# Altium schematic symbol library TFT.SchLib: 14 symbols
Pins are listed as number, name and electrical type; pins without a type are passive.

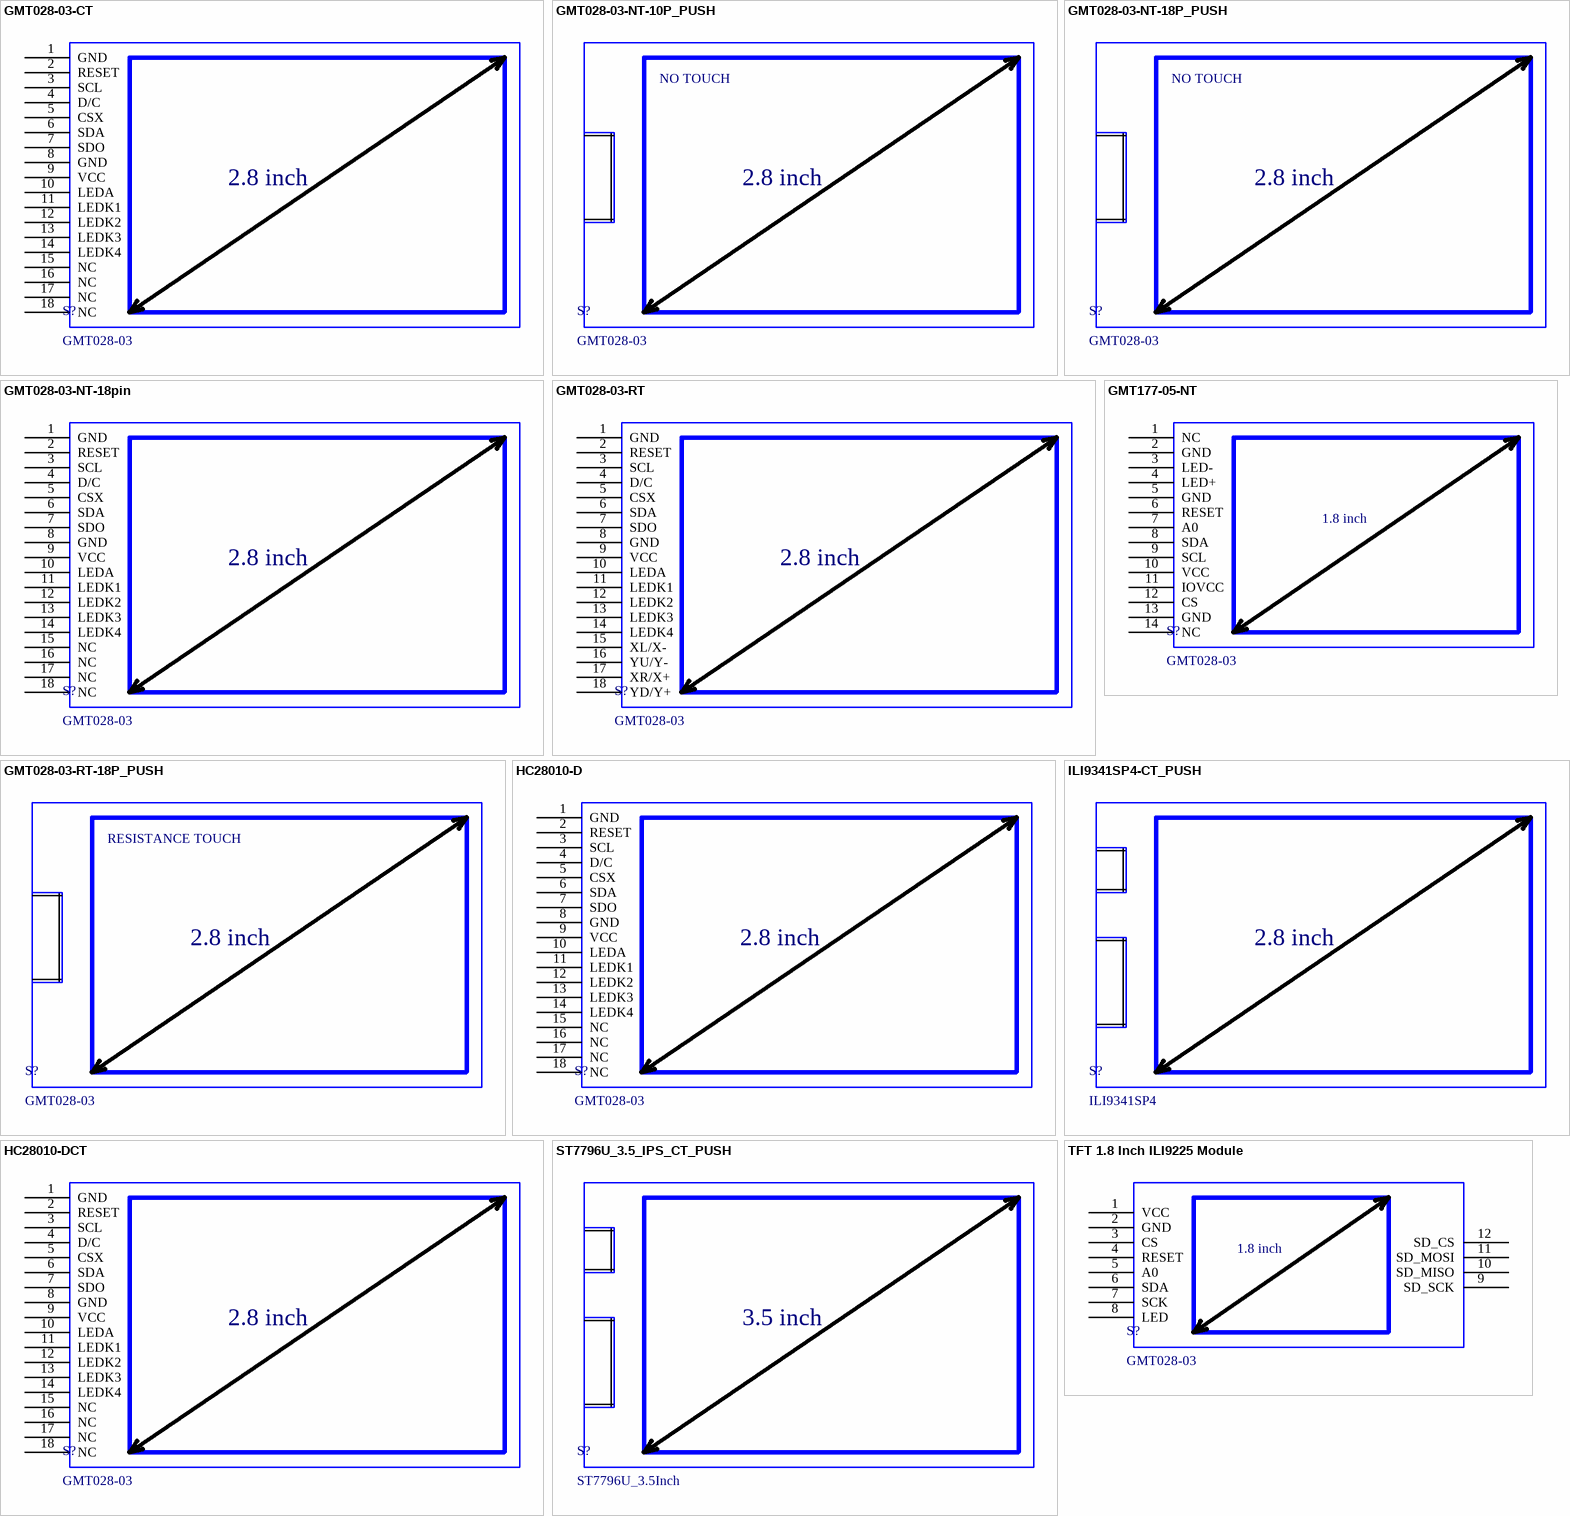
[diagram p0: symbols GMT028-03-CT to TFT 1.8 Inch ILI9225 Module]

## GMT028-03-CT
designator S?, comment GMT028-03
2.8 inch TFT display 240×320 ST7789V GMT028-03; Manufacturer: GoldenMorning; Manufacturer Part Number: 68612614122; Screen type: TFT IPS; Voltage Input Maximum: 3.3 V; Voltage Input Minimum: 2.8 V; Driver: ST7789V; Size: 2.8 inch; Type: Panel; Value: GMT028-03; ComponentLink1Description: Datasheet; LCSC Part #: N/A; Supplier 1: Mouser; Supplier 1 Part Number: N/A; Supplier 1 URL: N/A; Supplier 2: Digi-Key; Supplier 2 Part Number: N/A; Supplier 2 URL: N/A; Supplier 3: Taobao; Supplier 3 Part Number: N/A; Supplier 3 URL: https://item.taobao.com/item.htm?id=710817195560&pisk=fdQIZQ02AvDIiLxK0_FwCV-Rs4T5O9a22bORi_3EweLpwa6RF7fFa_dJPOBztp58KT_WBTVnzWbFF3CeCBnJe4d96IRXe2CRzQQW-NSEzpyHP_B2P-y4ur5ht3Y83-J7FWd6kBp-2YJR6hCZU7ZYur5h1XRLg1UV8uZaNnOJyHKJ6cpMND3ReDUT1Qdr2Xnde1LSrcHnpx50CV0ZbVWhHWoI20Q66WvAOQAM_N9BvKK9B4CN5BtBH6QUd4YW6N760hlzOFCcb9d6lyMDOGCXJQ_uM09WVwY6CtaxrCjddNK5774f_eOWDUKsw4C68GK6TEUxCCjOTgQhdbgJtw72VKx_w4xyWZ-AD9Gui1LpwgRnuKM4i0G6m4O635Nsq0YcU2fxacK0QHdMOhP_1vIkvCA635Nsq0xpsBta15Mdq&spm=a1z10.5-c-s.w4002-23300244402.11.2d3d5b55n9vasc; ComponentLink1URL: https://item.taobao.com/item.htm?id=710817195560&pisk=fdQIZQ02AvDIiLxK0_FwCV-Rs4T5O9a22bORi_3EweLpwa6RF7fFa_dJPOBztp58KT_WBTVnzWbFF3CeCBnJe4d96IRXe2CRzQQW-NSEzpyHP_B2P-y4ur5ht3Y83-J7FWd6kBp-2YJR6hCZU7ZYur5h1XRLg1UV8uZaNnOJyHKJ6cpMND3ReDUT1Qdr2Xnde1LSrcHnpx50CV0ZbVWhHWoI20Q66WvAOQAM_N9BvKK9B4CN5BtBH6QUd4YW6N760hlzOFCcb9d6lyMDOGCXJQ_uM09WVwY6CtaxrCjddNK5774f_eOWDUKsw4C68GK6TEUxCCjOTgQhdbgJtw72VKx_w4xyWZ-AD9Gui1LpwgRnuKM4i0G6m4O635Nsq0YcU2fxacK0QHdMOhP_1vIkvCA635Nsq0xpsBta15Mdq&spm=a1z10.5-c-s.w4002-23300244402.11.2d3d5b55n9vasc
footprint GMT028-03-18pin-CT
pins: 1 GND, 2 RESET, 3 SCL, 4 D/C, 5 CSX, 6 SDA, 7 SDO, 8 GND, 9 VCC, 10 LEDA, 11 LEDK1, 12 LEDK2, 13 LEDK3, 14 LEDK4, 15 NC, 16 NC, 17 NC, 18 NC

## GMT028-03-NT-10P_PUSH
designator S?, comment GMT028-03
2.8 inch TFT display 240×320 ST7789V GMT028-03; Manufacturer: GoldenMorning; Manufacturer Part Number: 68612614122; Screen type: TFT IPS; Voltage Input Maximum: 3.3 V; Voltage Input Minimum: 2.8 V; Driver: ST7789V; Size: 2.8 inch; Type: Panel; Value: GMT028-03; ComponentLink1Description: Datasheet; LCSC Part #: N/A; Supplier 1: Mouser; Supplier 1 Part Number: N/A; Supplier 1 URL: N/A; Supplier 2: Digi-Key; Supplier 2 Part Number: N/A; Supplier 2 URL: N/A; Supplier 3: Taobao; Supplier 3 Part Number: 2.8 inch-18P welding-ST7789; Supplier 3 URL: https://item.taobao.com/item.htm?id=710817195560&pisk=fdQIZQ02AvDIiLxK0_FwCV-Rs4T5O9a22bORi_3EweLpwa6RF7fFa_dJPOBztp58KT_WBTVnzWbFF3CeCBnJe4d96IRXe2CRzQQW-NSEzpyHP_B2P-y4ur5ht3Y83-J7FWd6kBp-2YJR6hCZU7ZYur5h1XRLg1UV8uZaNnOJyHKJ6cpMND3ReDUT1Qdr2Xnde1LSrcHnpx50CV0ZbVWhHWoI20Q66WvAOQAM_N9BvKK9B4CN5BtBH6QUd4YW6N760hlzOFCcb9d6lyMDOGCXJQ_uM09WVwY6CtaxrCjddNK5774f_eOWDUKsw4C68GK6TEUxCCjOTgQhdbgJtw72VKx_w4xyWZ-AD9Gui1LpwgRnuKM4i0G6m4O635Nsq0YcU2fxacK0QHdMOhP_1vIkvCA635Nsq0xpsBta15Mdq&spm=a1z10.5-c-s.w4002-23300244402.11.2d3d5b55n9vasc; ComponentLink1URL: https://item.taobao.com/item.htm?id=710817195560&pisk=fdQIZQ02AvDIiLxK0_FwCV-Rs4T5O9a22bORi_3EweLpwa6RF7fFa_dJPOBztp58KT_WBTVnzWbFF3CeCBnJe4d96IRXe2CRzQQW-NSEzpyHP_B2P-y4ur5ht3Y83-J7FWd6kBp-2YJR6hCZU7ZYur5h1XRLg1UV8uZaNnOJyHKJ6cpMND3ReDUT1Qdr2Xnde1LSrcHnpx50CV0ZbVWhHWoI20Q66WvAOQAM_N9BvKK9B4CN5BtBH6QUd4YW6N760hlzOFCcb9d6lyMDOGCXJQ_uM09WVwY6CtaxrCjddNK5774f_eOWDUKsw4C68GK6TEUxCCjOTgQhdbgJtw72VKx_w4xyWZ-AD9Gui1LpwgRnuKM4i0G6m4O635Nsq0YcU2fxacK0QHdMOhP_1vIkvCA635Nsq0xpsBta15Mdq&spm=a1z10.5-c-s.w4002-23300244402.11.2d3d5b55n9vasc
footprint GMT028-03-10pin-plug
text: NO TOUCH

## GMT028-03-NT-18P_PUSH
designator S?, comment GMT028-03
2.8 inch TFT display 240×320 ST7789V GMT028-03; Manufacturer: GoldenMorning; Manufacturer Part Number: 68612614122; Screen type: TFT IPS; Voltage Input Maximum: 3.3 V; Voltage Input Minimum: 2.8 V; Driver: ST7789V; Size: 2.8 inch; Type: Panel; Value: GMT028-03; ComponentLink1Description: Datasheet; LCSC Part #: N/A; Supplier 1: Mouser; Supplier 1 Part Number: N/A; Supplier 1 URL: N/A; Supplier 2: Digi-Key; Supplier 2 Part Number: N/A; Supplier 2 URL: N/A; Supplier 3: Taobao; Supplier 3 Part Number: 2.8 inch-18P welding-ST7789; Supplier 3 URL: https://item.taobao.com/item.htm?id=710817195560&pisk=fdQIZQ02AvDIiLxK0_FwCV-Rs4T5O9a22bORi_3EweLpwa6RF7fFa_dJPOBztp58KT_WBTVnzWbFF3CeCBnJe4d96IRXe2CRzQQW-NSEzpyHP_B2P-y4ur5ht3Y83-J7FWd6kBp-2YJR6hCZU7ZYur5h1XRLg1UV8uZaNnOJyHKJ6cpMND3ReDUT1Qdr2Xnde1LSrcHnpx50CV0ZbVWhHWoI20Q66WvAOQAM_N9BvKK9B4CN5BtBH6QUd4YW6N760hlzOFCcb9d6lyMDOGCXJQ_uM09WVwY6CtaxrCjddNK5774f_eOWDUKsw4C68GK6TEUxCCjOTgQhdbgJtw72VKx_w4xyWZ-AD9Gui1LpwgRnuKM4i0G6m4O635Nsq0YcU2fxacK0QHdMOhP_1vIkvCA635Nsq0xpsBta15Mdq&spm=a1z10.5-c-s.w4002-23300244402.11.2d3d5b55n9vasc; ComponentLink1URL: https://item.taobao.com/item.htm?id=710817195560&pisk=fdQIZQ02AvDIiLxK0_FwCV-Rs4T5O9a22bORi_3EweLpwa6RF7fFa_dJPOBztp58KT_WBTVnzWbFF3CeCBnJe4d96IRXe2CRzQQW-NSEzpyHP_B2P-y4ur5ht3Y83-J7FWd6kBp-2YJR6hCZU7ZYur5h1XRLg1UV8uZaNnOJyHKJ6cpMND3ReDUT1Qdr2Xnde1LSrcHnpx50CV0ZbVWhHWoI20Q66WvAOQAM_N9BvKK9B4CN5BtBH6QUd4YW6N760hlzOFCcb9d6lyMDOGCXJQ_uM09WVwY6CtaxrCjddNK5774f_eOWDUKsw4C68GK6TEUxCCjOTgQhdbgJtw72VKx_w4xyWZ-AD9Gui1LpwgRnuKM4i0G6m4O635Nsq0YcU2fxacK0QHdMOhP_1vIkvCA635Nsq0xpsBta15Mdq&spm=a1z10.5-c-s.w4002-23300244402.11.2d3d5b55n9vasc
footprint GMT028-03-18pin-plug
text: NO TOUCH

## GMT028-03-NT-18pin
designator S?, comment GMT028-03
2.8 inch TFT display 240×320 ST7789V GMT028-03; Manufacturer: GoldenMorning; Manufacturer Part Number: 68612614122; Screen type: TFT IPS; Voltage Input Maximum: 3.3 V; Voltage Input Minimum: 2.8 V; Driver: ST7789V; Size: 2.8 inch; Type: Panel; Value: GMT028-03; ComponentLink1Description: Datasheet; LCSC Part #: N/A; Supplier 1: Mouser; Supplier 1 Part Number: N/A; Supplier 1 URL: N/A; Supplier 2: Digi-Key; Supplier 2 Part Number: N/A; Supplier 2 URL: N/A; Supplier 3: Taobao; Supplier 3 Part Number: 2.8 inch-18P welding-ST7789; Supplier 3 URL: https://item.taobao.com/item.htm?id=710817195560&pisk=fdQIZQ02AvDIiLxK0_FwCV-Rs4T5O9a22bORi_3EweLpwa6RF7fFa_dJPOBztp58KT_WBTVnzWbFF3CeCBnJe4d96IRXe2CRzQQW-NSEzpyHP_B2P-y4ur5ht3Y83-J7FWd6kBp-2YJR6hCZU7ZYur5h1XRLg1UV8uZaNnOJyHKJ6cpMND3ReDUT1Qdr2Xnde1LSrcHnpx50CV0ZbVWhHWoI20Q66WvAOQAM_N9BvKK9B4CN5BtBH6QUd4YW6N760hlzOFCcb9d6lyMDOGCXJQ_uM09WVwY6CtaxrCjddNK5774f_eOWDUKsw4C68GK6TEUxCCjOTgQhdbgJtw72VKx_w4xyWZ-AD9Gui1LpwgRnuKM4i0G6m4O635Nsq0YcU2fxacK0QHdMOhP_1vIkvCA635Nsq0xpsBta15Mdq&spm=a1z10.5-c-s.w4002-23300244402.11.2d3d5b55n9vasc; ComponentLink1URL: https://item.taobao.com/item.htm?id=710817195560&pisk=fdQIZQ02AvDIiLxK0_FwCV-Rs4T5O9a22bORi_3EweLpwa6RF7fFa_dJPOBztp58KT_WBTVnzWbFF3CeCBnJe4d96IRXe2CRzQQW-NSEzpyHP_B2P-y4ur5ht3Y83-J7FWd6kBp-2YJR6hCZU7ZYur5h1XRLg1UV8uZaNnOJyHKJ6cpMND3ReDUT1Qdr2Xnde1LSrcHnpx50CV0ZbVWhHWoI20Q66WvAOQAM_N9BvKK9B4CN5BtBH6QUd4YW6N760hlzOFCcb9d6lyMDOGCXJQ_uM09WVwY6CtaxrCjddNK5774f_eOWDUKsw4C68GK6TEUxCCjOTgQhdbgJtw72VKx_w4xyWZ-AD9Gui1LpwgRnuKM4i0G6m4O635Nsq0YcU2fxacK0QHdMOhP_1vIkvCA635Nsq0xpsBta15Mdq&spm=a1z10.5-c-s.w4002-23300244402.11.2d3d5b55n9vasc
footprint GMT028-03-18pin
pins: 1 GND, 2 RESET, 3 SCL, 4 D/C, 5 CSX, 6 SDA, 7 SDO, 8 GND, 9 VCC, 10 LEDA, 11 LEDK1, 12 LEDK2, 13 LEDK3, 14 LEDK4, 15 NC, 16 NC, 17 NC, 18 NC

## GMT028-03-RT
designator S?, comment GMT028-03
2.8 inch TFT display 240×320 ST7789V GMT028-03; Manufacturer: GoldenMorning; Manufacturer Part Number: 68612614122; Screen type: TFT IPS; Voltage Input Maximum: 3.3 V; Voltage Input Minimum: 2.8 V; Driver: ST7789V; Size: 2.8 inch; Type: Panel; Value: GMT028-03; ComponentLink1Description: Datasheet; LCSC Part #: N/A; Supplier 1: Mouser; Supplier 1 Part Number: N/A; Supplier 1 URL: N/A; Supplier 2: Digi-Key; Supplier 2 Part Number: N/A; Supplier 2 URL: N/A; Supplier 3: Taobao; Supplier 3 Part Number: N/A; Supplier 3 URL: https://item.taobao.com/item.htm?id=710817195560&pisk=fdQIZQ02AvDIiLxK0_FwCV-Rs4T5O9a22bORi_3EweLpwa6RF7fFa_dJPOBztp58KT_WBTVnzWbFF3CeCBnJe4d96IRXe2CRzQQW-NSEzpyHP_B2P-y4ur5ht3Y83-J7FWd6kBp-2YJR6hCZU7ZYur5h1XRLg1UV8uZaNnOJyHKJ6cpMND3ReDUT1Qdr2Xnde1LSrcHnpx50CV0ZbVWhHWoI20Q66WvAOQAM_N9BvKK9B4CN5BtBH6QUd4YW6N760hlzOFCcb9d6lyMDOGCXJQ_uM09WVwY6CtaxrCjddNK5774f_eOWDUKsw4C68GK6TEUxCCjOTgQhdbgJtw72VKx_w4xyWZ-AD9Gui1LpwgRnuKM4i0G6m4O635Nsq0YcU2fxacK0QHdMOhP_1vIkvCA635Nsq0xpsBta15Mdq&spm=a1z10.5-c-s.w4002-23300244402.11.2d3d5b55n9vasc; ComponentLink1URL: https://item.taobao.com/item.htm?id=710817195560&pisk=fdQIZQ02AvDIiLxK0_FwCV-Rs4T5O9a22bORi_3EweLpwa6RF7fFa_dJPOBztp58KT_WBTVnzWbFF3CeCBnJe4d96IRXe2CRzQQW-NSEzpyHP_B2P-y4ur5ht3Y83-J7FWd6kBp-2YJR6hCZU7ZYur5h1XRLg1UV8uZaNnOJyHKJ6cpMND3ReDUT1Qdr2Xnde1LSrcHnpx50CV0ZbVWhHWoI20Q66WvAOQAM_N9BvKK9B4CN5BtBH6QUd4YW6N760hlzOFCcb9d6lyMDOGCXJQ_uM09WVwY6CtaxrCjddNK5774f_eOWDUKsw4C68GK6TEUxCCjOTgQhdbgJtw72VKx_w4xyWZ-AD9Gui1LpwgRnuKM4i0G6m4O635Nsq0YcU2fxacK0QHdMOhP_1vIkvCA635Nsq0xpsBta15Mdq&spm=a1z10.5-c-s.w4002-23300244402.11.2d3d5b55n9vasc
footprint GMT028-03-18pin
pins: 1 GND, 2 RESET, 3 SCL, 4 D/C, 5 CSX, 6 SDA, 7 SDO, 8 GND, 9 VCC, 10 LEDA, 11 LEDK1, 12 LEDK2, 13 LEDK3, 14 LEDK4, 15 XL/X-, 16 YU/Y-, 17 XR/X+, 18 YD/Y+

## GMT028-03-RT-18P_PUSH
designator S?, comment GMT028-03
2.8 inch TFT display 240×320 ST7789V GMT028-03; Manufacturer: GoldenMorning; Manufacturer Part Number: 68612614122; Screen type: TFT IPS; Voltage Input Maximum: 3.3 V; Voltage Input Minimum: 2.8 V; Driver: ST7789V; Size: 2.8 inch; Type: Panel; Value: GMT028-03; ComponentLink1Description: Datasheet; LCSC Part #: N/A; Supplier 1: Mouser; Supplier 1 Part Number: N/A; Supplier 1 URL: N/A; Supplier 2: Digi-Key; Supplier 2 Part Number: N/A; Supplier 2 URL: N/A; Supplier 3: Taobao; Supplier 3 Part Number: 2.8 inch-18P welding-ST7789; Supplier 3 URL: https://item.taobao.com/item.htm?id=710817195560&pisk=fdQIZQ02AvDIiLxK0_FwCV-Rs4T5O9a22bORi_3EweLpwa6RF7fFa_dJPOBztp58KT_WBTVnzWbFF3CeCBnJe4d96IRXe2CRzQQW-NSEzpyHP_B2P-y4ur5ht3Y83-J7FWd6kBp-2YJR6hCZU7ZYur5h1XRLg1UV8uZaNnOJyHKJ6cpMND3ReDUT1Qdr2Xnde1LSrcHnpx50CV0ZbVWhHWoI20Q66WvAOQAM_N9BvKK9B4CN5BtBH6QUd4YW6N760hlzOFCcb9d6lyMDOGCXJQ_uM09WVwY6CtaxrCjddNK5774f_eOWDUKsw4C68GK6TEUxCCjOTgQhdbgJtw72VKx_w4xyWZ-AD9Gui1LpwgRnuKM4i0G6m4O635Nsq0YcU2fxacK0QHdMOhP_1vIkvCA635Nsq0xpsBta15Mdq&spm=a1z10.5-c-s.w4002-23300244402.11.2d3d5b55n9vasc; ComponentLink1URL: https://item.taobao.com/item.htm?id=710817195560&pisk=fdQIZQ02AvDIiLxK0_FwCV-Rs4T5O9a22bORi_3EweLpwa6RF7fFa_dJPOBztp58KT_WBTVnzWbFF3CeCBnJe4d96IRXe2CRzQQW-NSEzpyHP_B2P-y4ur5ht3Y83-J7FWd6kBp-2YJR6hCZU7ZYur5h1XRLg1UV8uZaNnOJyHKJ6cpMND3ReDUT1Qdr2Xnde1LSrcHnpx50CV0ZbVWhHWoI20Q66WvAOQAM_N9BvKK9B4CN5BtBH6QUd4YW6N760hlzOFCcb9d6lyMDOGCXJQ_uM09WVwY6CtaxrCjddNK5774f_eOWDUKsw4C68GK6TEUxCCjOTgQhdbgJtw72VKx_w4xyWZ-AD9Gui1LpwgRnuKM4i0G6m4O635Nsq0YcU2fxacK0QHdMOhP_1vIkvCA635Nsq0xpsBta15Mdq&spm=a1z10.5-c-s.w4002-23300244402.11.2d3d5b55n9vasc
footprint GMT028-03-18pin-plug
text: RESISTANCE TOUCH

## GMT177-05-NT
designator S?, comment GMT028-03
TFT IPS 1.8 Inch ST7735S Panel; Manufacturer Part Number: 68612614122; Screen type: TFT IPS; Voltage Input Maximum: 3.3 V; Voltage Input Minimum: 2.8 V; Driver: ST7735S; Size: 1.8 inch; Type: Panel; ComponentLink1Description: Datasheet; LCSC Part #: N/A; Manufacturer: N/A; Supplier 1: Mouser; Supplier 1 Part Number: N/A; Supplier 1 URL: N/A; Supplier 2: Digi-Key; Supplier 2 Part Number: N/A; Supplier 2 URL: N/A; Supplier 3: thegioiic; Supplier 3 Part Number: N/A; Supplier 3 URL: N/A; Value: GMT028-03; ComponentLink1URL: N/A
footprint GMT177-05
pins: 1 NC, 2 GND, 3 LED-, 4 LED+, 5 GND, 6 RESET, 7 A0, 8 SDA, 9 SCL, 10 VCC, 11 IOVCC, 12 CS, 13 GND, 14 NC

## HC28010-D
designator S?, comment GMT028-03
2.8 inch TFT display 240×320 ST7789V GMT028-03; Manufacturer: DUOWEISI; Manufacturer Part Number: 68612614122; Screen type: TFT IPS; Voltage Input Maximum: 3.3 V; Voltage Input Minimum: 2.8 V; Driver: ST7789V; Size: 2.8 inch; Type: Panel; Value: GMT028-03; ComponentLink1Description: Datasheet; ComponentLink1URL: https://item.taobao.com/item.htm?id=679717437355&pisk=gj2ofJvzF7l5moz9yrk5TH_XKz5YP3MI8ypKJv3Fgqub2pI72SmUJrsCVYEE-y4xlupdVuFDxla0-XsSJ2u3JkPRDOBTVuMIL2bOBOQ9RQjg-0kEznSEfDAFDbzv_QS-LNQOKIKqNaHUyuHLjIrqlDmeUpzEgEoiuDueUyuqgco9UvkU8ixqxcLeULoy3KujXU-yUb8q0Do6UQoz8oSmvD3ELvlyIpugL-wVyUK7uAE6B-ioZVrrzyUL36lWNo005P2rqoV44M9eL-moZJGeUvDZwWrs18EhKKM8jSkqxJswt2cgT8H4UZWZGXy4umzRvBi0tkysFbtBdPDu-fyriHJIUvPSnmyNvCgYn4UUEjS9IXH4BfkzMs_-9Ymg88akxpzaDleSGJbMu2N-fxo3dGRn-XSruIRadrpI0Me2OBGrcm0OJnOlS8k_1hScmC1SamiRWijDOBGrcm0OmiA1Nboj2NC..&skuId=4877221777661&spm=pc_detail.29232929%2Fevo401271b517998.202205.23.350b7dd6lReNKq; LCSC Part #: N/A; Supplier 1: Mouser; Supplier 1 Part Number: N/A; Supplier 1 URL: N/A; Supplier 2: Digi-Key; Supplier 2 Part Number: N/A; Supplier 2 URL: N/A; Supplier 3: Taobao; Supplier 3 Part Number: N/A; Supplier 3 URL: N/A
footprint GMT028-03-18pin
pins: 1 GND, 2 RESET, 3 SCL, 4 D/C, 5 CSX, 6 SDA, 7 SDO, 8 GND, 9 VCC, 10 LEDA, 11 LEDK1, 12 LEDK2, 13 LEDK3, 14 LEDK4, 15 NC, 16 NC, 17 NC, 18 NC

## HC28010-DCT
designator S?, comment GMT028-03
2.8 inch TFT display 240×320 ST7789V GMT028-03; Manufacturer: DUOWEISI; Manufacturer Part Number: 68612614122; Screen type: TFT IPS; Voltage Input Maximum: 3.3 V; Voltage Input Minimum: 2.8 V; Driver: ST7789V; Size: 2.8 inch; Type: Panel; Value: GMT028-03; ComponentLink1Description: Datasheet; ComponentLink1URL: https://item.taobao.com/item.htm?id=679717437355&pisk=gj2ofJvzF7l5moz9yrk5TH_XKz5YP3MI8ypKJv3Fgqub2pI72SmUJrsCVYEE-y4xlupdVuFDxla0-XsSJ2u3JkPRDOBTVuMIL2bOBOQ9RQjg-0kEznSEfDAFDbzv_QS-LNQOKIKqNaHUyuHLjIrqlDmeUpzEgEoiuDueUyuqgco9UvkU8ixqxcLeULoy3KujXU-yUb8q0Do6UQoz8oSmvD3ELvlyIpugL-wVyUK7uAE6B-ioZVrrzyUL36lWNo005P2rqoV44M9eL-moZJGeUvDZwWrs18EhKKM8jSkqxJswt2cgT8H4UZWZGXy4umzRvBi0tkysFbtBdPDu-fyriHJIUvPSnmyNvCgYn4UUEjS9IXH4BfkzMs_-9Ymg88akxpzaDleSGJbMu2N-fxo3dGRn-XSruIRadrpI0Me2OBGrcm0OJnOlS8k_1hScmC1SamiRWijDOBGrcm0OmiA1Nboj2NC..&skuId=4877221777661&spm=pc_detail.29232929%2Fevo401271b517998.202205.23.350b7dd6lReNKq; LCSC Part #: N/A; Supplier 1: Mouser; Supplier 1 Part Number: N/A; Supplier 1 URL: N/A; Supplier 2: Digi-Key; Supplier 2 Part Number: N/A; Supplier 2 URL: N/A; Supplier 3: Taobao; Supplier 3 Part Number: N/A; Supplier 3 URL: N/A
footprint GMT028-03-18pin-CT
pins: 1 GND, 2 RESET, 3 SCL, 4 D/C, 5 CSX, 6 SDA, 7 SDO, 8 GND, 9 VCC, 10 LEDA, 11 LEDK1, 12 LEDK2, 13 LEDK3, 14 LEDK4, 15 NC, 16 NC, 17 NC, 18 NC

## ILI9341SP4-CT_PUSH
designator S?, comment ILI9341SP4
2.8 inch TFT display 240×320 ST7789V ILI9341SP4; Manufacturer: Yaoyuanhong Technology; Screen type: TFT IPS; Voltage Input Maximum: 3.3 V; Voltage Input Minimum: 2.8 V; Driver: ST7789V; Size: 2.8 inch; Type: Panel; Value: ILI9341SP4; ComponentLink1Description: Datasheet; LCSC Part #: N/A; Manufacturer Part Number: ILI9341SP4; Supplier 1: Mouser; Supplier 1 Part Number: N/A; Supplier 1 URL: N/A; Supplier 2: Digi-Key; Supplier 2 Part Number: N/A; Supplier 2 URL: N/A; Supplier 3: Taobao; Supplier 3 Part Number: N/A; Supplier 3 URL: https://e.tb.cn/h.6TmPpvXFVOUaXNH?tk=ez3EeA30mIk; ComponentLink1URL: https://e.tb.cn/h.6TmPpvXFVOUaXNH?tk=ez3EeA30mIk
footprint ILI9341SP4-18pin-CT-plug

## ST7796U_3.5_IPS_CT_PUSH
designator S?, comment ST7796U_3.5Inch
3.5 inch IPS display 320×480 ST7796U; Manufacturer: Yaoyuanhong Technology; Manufacturer Part Number: ILI9341SP4; Screen type: TFT IPS; Voltage Input Maximum: 3.3 V; Voltage Input Minimum: 2.8 V; Driver: ST7796U; Size: 2.8 inch; Type: Panel; Value: ST7796U_3.5Inch; ComponentLink1Description: Datasheet; LCSC Part #: N/A; Supplier 1: Mouser; Supplier 1 Part Number: N/A; Supplier 1 URL: N/A; Supplier 2: Digi-Key; Supplier 2 Part Number: N/A; Supplier 2 URL: N/A; Supplier 3: Taobao; Supplier 3 Part Number: N/A; Supplier 3 URL: https://e.tb.cn/h.SG6sNU86mBkHVn2?tk=dYQlfkeQtDx; ComponentLink1URL: https://e.tb.cn/h.6TmPpvXFVOUaXNH?tk=ez3EeA30mIk
footprint ST7796U_3.5_IPS_CT_PUSH
text: 3.5 inch

## TFT 1.8 Inch ILI9225 Module
designator S?, comment GMT028-03
TFT 1.8 Inch ILI9225 Module; Manufacturer Part Number: 68612614122; Screen type: TFT IPS; Voltage Input Maximum: 3.3 V; Voltage Input Minimum: 2.8 V; Driver: ILI9225; Size: 1.8 inch; Type: Module; ComponentLink1Description: Datasheet; LCSC Part #: N/A; Manufacturer: N/A; Supplier 1: Mouser; Supplier 1 Part Number: N/A; Supplier 1 URL: N/A; Supplier 2: Digi-Key; Supplier 2 Part Number: N/A; Supplier 2 URL: N/A; Supplier 3: thegioiic; Supplier 3 Part Number: N/A; Supplier 3 URL: N/A; Value: GMT028-03; ComponentLink1URL: N/A
footprint TFT_1.8_MODULE
footprint TFT_1.8_MODULE - WITHOUT_HOLE
pins: 1 VCC, 2 GND, 3 CS, 4 RESET, 5 A0, 6 SDA, 7 SCK, 8 LED, 9 SD_SCK, 10 SD_MISO, 11 SD_MOSI, 12 SD_CS

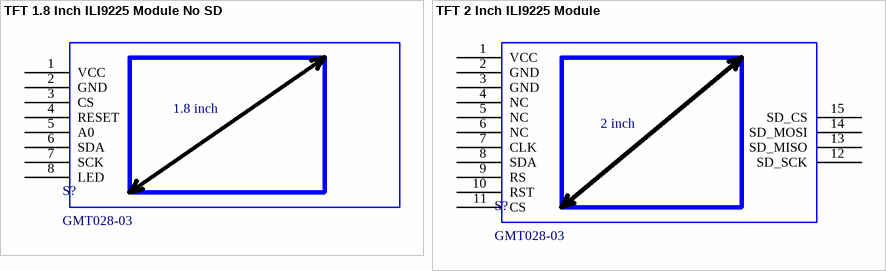
[diagram p1: symbols TFT 1.8 Inch ILI9225 Module No SD to TFT 2 Inch ILI9225 Module]

## TFT 1.8 Inch ILI9225 Module No SD
designator S?, comment GMT028-03
TFT 1.8 Inch ILI9225 Module No SD; Manufacturer Part Number: 68612614122; Screen type: TFT IPS; Voltage Input Maximum: 3.3 V; Voltage Input Minimum: 2.8 V; Driver: ILI9225; Size: 1.8 inch; Type: Module; ComponentLink1Description: Datasheet; LCSC Part #: N/A; Manufacturer: N/A; Supplier 1: Mouser; Supplier 1 Part Number: N/A; Supplier 1 URL: N/A; Supplier 2: Digi-Key; Supplier 2 Part Number: N/A; Supplier 2 URL: N/A; Supplier 3: thegioiic; Supplier 3 Part Number: N/A; Supplier 3 URL: N/A; Value: GMT028-03; ComponentLink1URL: N/A
footprint TFT_1.8_MODULE - nosd
footprint TFT_1.8_MODULE - WITHOUT_HOLE - nosd
pins: 1 VCC, 2 GND, 3 CS, 4 RESET, 5 A0, 6 SDA, 7 SCK, 8 LED

## TFT 2 Inch ILI9225 Module
designator S?, comment GMT028-03
TFT 2 Inch ILI9225 Module; Manufacturer Part Number: 68612614122; Screen type: TFT IPS; Voltage Input Maximum: 3.3 V; Voltage Input Minimum: 2.8 V; Driver: ILI9225; Size: 2 inch; Type: Module; ComponentLink1Description: Datasheet; LCSC Part #: N/A; Manufacturer: N/A; Supplier 1: Mouser; Supplier 1 Part Number: N/A; Supplier 1 URL: N/A; Supplier 2: Digi-Key; Supplier 2 Part Number: N/A; Supplier 2 URL: N/A; Supplier 3: thegioiic; Supplier 3 Part Number: N/A; Supplier 3 URL: N/A; Value: GMT028-03; ComponentLink1URL: N/A
footprint TFT_2_MODULE
pins: 1 VCC, 2 GND, 3 GND, 4 NC, 5 NC, 6 NC, 7 CLK, 8 SDA, 9 RS, 10 RST, 11 CS, 12 SD_SCK, 13 SD_MISO, 14 SD_MOSI, 15 SD_CS